# EAGLE library part 621X2421921 (library Eagle_BOARD-TO-BOARD_CONNECTORS (rev18b))
WR-PHD 2.00mm Dual SMT Pin Header, 24 Pins=>Code :WR-PHD_SMD_2,00mm_zweireihig621x2421921(packageing:x = 0: Tube x = 3: Tape & Reel with Cap) <http://katalog.we-online.de/media/images/eican/WR-PHD_SMD_2,00mm_zweireihig62103221921.jpg> 6210xx21921 Details see: http://katalog.we-online.de/en/em/621_0xx_219_21 6213xx21921 Details see: http://katalog.we-online.de/en/em/PHD_2_00_SMT_DUAL_PIN_HEADER_REEL_6213XX21921 2014 (C) Würth Elektronik
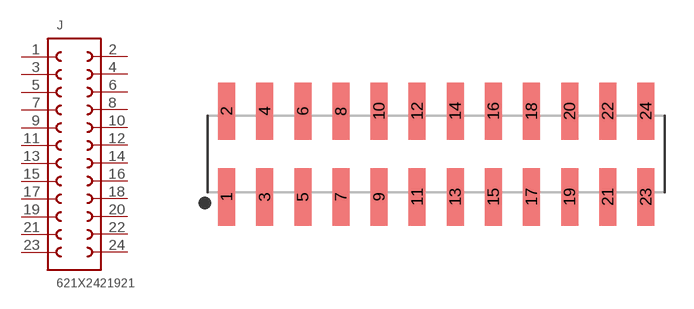
[diagram p237: symbol with the pads of 621X2421921; footprint 621X2421921]

Designator prefix J

## 621X2421921  [621X2421921]
1  1  pas
2  24  pas
3  2  pas
4  23  pas
5  3  pas
6  22  pas
7  4  pas
8  21  pas
9  5  pas
10  20  pas
11  6  pas
12  19  pas
13  7  pas
14  18  pas
15  8  pas
16  17  pas
17  9  pas
18  16  pas
19  10  pas
20  15  pas
21  11  pas
22  14  pas
23  12  pas
24  13  pas

## Footprint 621X2421921 (pad centres in mm)
WR-PHD 2.00mm Dual SMT Pin Header, 24 Pins
smd 0.89 x 3: 1 -11,-2.25; 2 -11,2.25; 3 -9,-2.25; 4 -9,2.25; 5 -7,-2.25; 6 -7,2.25; 7 -5,-2.25; 8 -5,2.25; 9 -3,-2.25; 10 -3,2.25; 11 -1,-2.25; 12 -1,2.25; 13 1,-2.25; 14 1,2.25; 15 3,-2.25; 16 3,2.25; 17 5,-2.25; 18 5,2.25; 19 7,-2.25; 20 7,2.25; 21 9,-2.25; 22 9,2.25; 23 11,-2.25; 24 11,2.25